# Altium schematic symbol library Schlib_SiTime.SchLib: 3 symbols
Pins are listed as number, name and electrical type; pins without a type are passive.

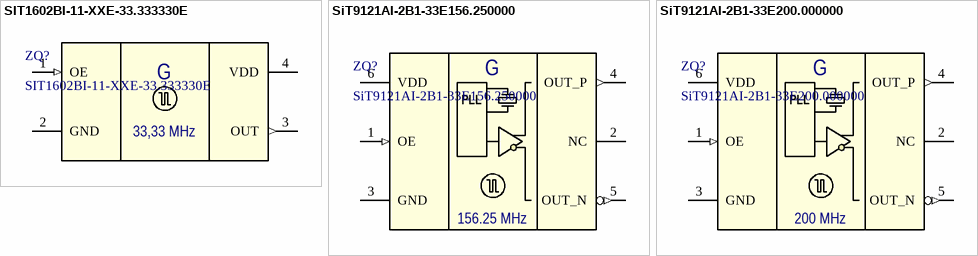
[diagram p0: symbols SIT1602BI-11-XXE-33.333330E to SiT9121AI-2B1-33E200.000000]

## SIT1602BI-11-XXE-33.333330E
designator ZQ?
Clock Oscillator with LVCMOS output (Frequency Stability ±20ppm); Manufacturer: SiTime Corporation; PartNumber: SIT1602BI-11-XXE-33.333330E; Package: SMD2520
footprint SMD2520B
pins: 1 OE (in), 2 GND (power), 3 OUT (out), 4 VDD (power)
text: G; 33,33 MHz

## SiT9121AI-2B1-33E156.250000
designator ZQ?
Clock Oscillator with LVDS output (Frequency Stability ±20ppm); Manufacturer: SiTime Corporation; PartNumber: SiT9121AI-2B1-33E156.250000; Package: SMD2520
footprint SMD3225_SiT9121
pins: 1 OE (in), 2 NC (hiz), 3 GND (power), 4 OUT_P (out), 5 OUT_N (out), 6 VDD (power)
text: G; PLL; 156.25 MHz

## SiT9121AI-2B1-33E200.000000
designator ZQ?
Clock Oscillator with LVDS output (Frequency Stability ±20ppm); Manufacturer: SiTime Corporation; PartNumber: SiT9121AI-2B1-33E200.000000; Package: SMD2520
footprint SMD3225_SiT9121
pins: 1 OE (in), 2 NC (hiz), 3 GND (power), 4 OUT_P (out), 5 OUT_N (out), 6 VDD (power)
text: G; PLL; 200 MHz